# Altium footprint library TO92254P480H870-3.PcbLib: 1 footprints
Each footprint in its own frame and in the unit in brackets; x right, y up, seen from the top. Pads: shape width x height; smd on the part's side, far side on the other; paste and mask are expansions set on the pad; w line width, h text height; cw(c..) or ccw(c..) is an arc to the next point about the centre after c.
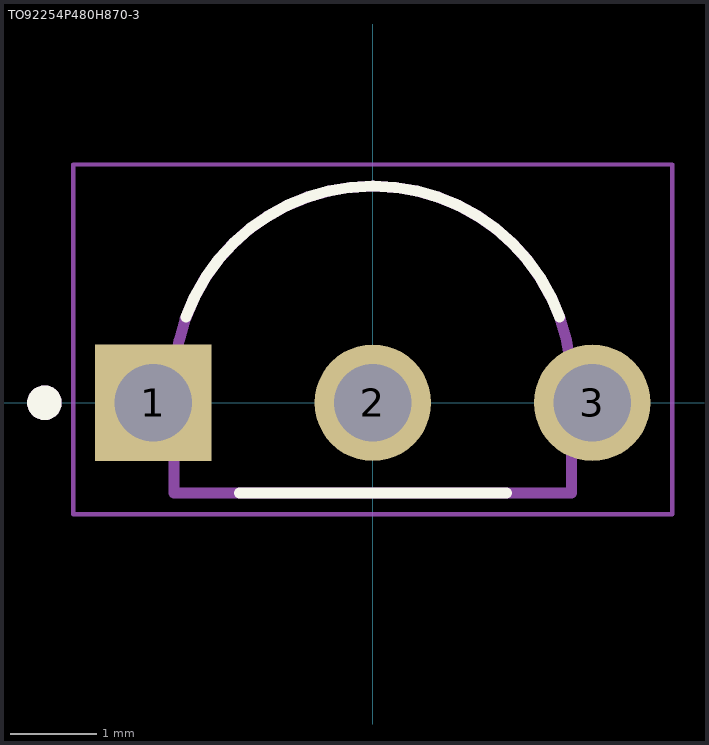
[diagram p0: the footprint, top view; thin cyan lines are the x and y axes]

## TO92254P480H870-3 [mm]
pads (3):
  rect 1.35x1.35 hole 0.9: 1(-2.54,0)
  round 1.35 hole 0.9: 2(0,0) 3(2.54,0)
Top Overlay:
  circle w0.2: c-3.8,0 r0.1
  lines w0.127: -2.161,0.995 cw(c0,0.208) 2.161,0.995 ; -1.545,-1.042 1.545,-1.042
Mechanical 13:
  circle w0.2: c-3.8,0 r0.1
  lines w0.127: -2.3,-1.042 -2.3,0.208 cw(c0,0.208) 2.3,0.208 2.3,-1.042 -2.3,-1.042
Mechanical 15:
  lines w0.05: -3.465,-1.292 -3.465,2.758 3.465,2.758 3.465,-1.292 -3.465,-1.292